# Altium schematic symbol library SJ1-3544.SchLib: 1 symbol
Pins are listed as number, name and electrical type; pins without a type are passive.

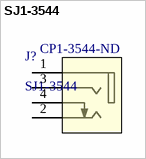
[diagram p0: symbol SJ1-3544]

## SJ1-3544
designator J?  Supplier Part Number 1: CP1-3544-ND
3.5mm Audio Jack; Supplier 1: Digi-Key
footprint SJ1-3544 (3.5mm Audio Jack)
pins: 1 S (power) "Sleeve (Ground)", 2 T "Tip/Left Channel/(+)", 3 R "Ring/Right Channel/(-)", 4 TN "Tip Normal (Break Contact)"